# EAGLE library part POLOLU_DRIVER (library sonos_library)
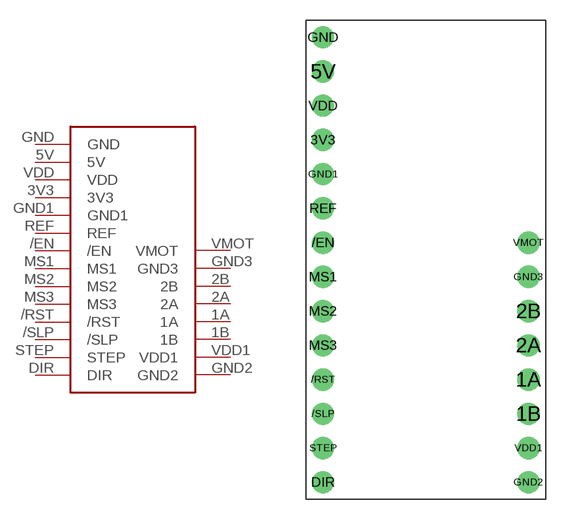
[diagram p0: symbol with the pads of POLOLU_DRIVER; footprint POLOLU_DRIVER]

Designator prefix -

## POLOLU_DRIVER  [POLOLU_DRIVER]
1A  1A
1B  1B
2A  2A
2B  2B
3V3  3V3
5V  5V
/EN  /EN
/RST  /RST
/SLP  /SLP
DIR  DIR
GND  GND
GND1  GND1
GND2  GND2
GND3  GND3
MS1  MS1
MS2  MS2
MS3  MS3
REF  REF
STEP  STEP
VDD  VDD
VDD1  VDD1
VMOT  VMOT

## Footprint POLOLU_DRIVER (pad centres in mm)
drill 1.016 pad 1.651: 1A 16.51,8.89; 1B 16.51,6.35; 2A 16.51,11.43; 2B 16.51,13.97; 3V3 1.27,26.67; 5V 1.27,31.75; /EN 1.27,19.05; /RST 1.27,8.89; /SLP 1.27,6.35; DIR 1.27,1.27; GND 1.27,34.29; GND1 1.27,24.13; GND2 16.51,1.27; GND3 16.51,16.51; MS1 1.27,16.51; MS2 1.27,13.97; MS3 1.27,11.43; REF 1.27,21.59; STEP 1.27,3.81; VDD 1.27,29.21; VDD1 16.51,3.81; VMOT 16.51,19.05